# Altium schematic symbol library user.SchLib: 19 symbols
Pins are listed as number, name and electrical type; pins without a type are passive.

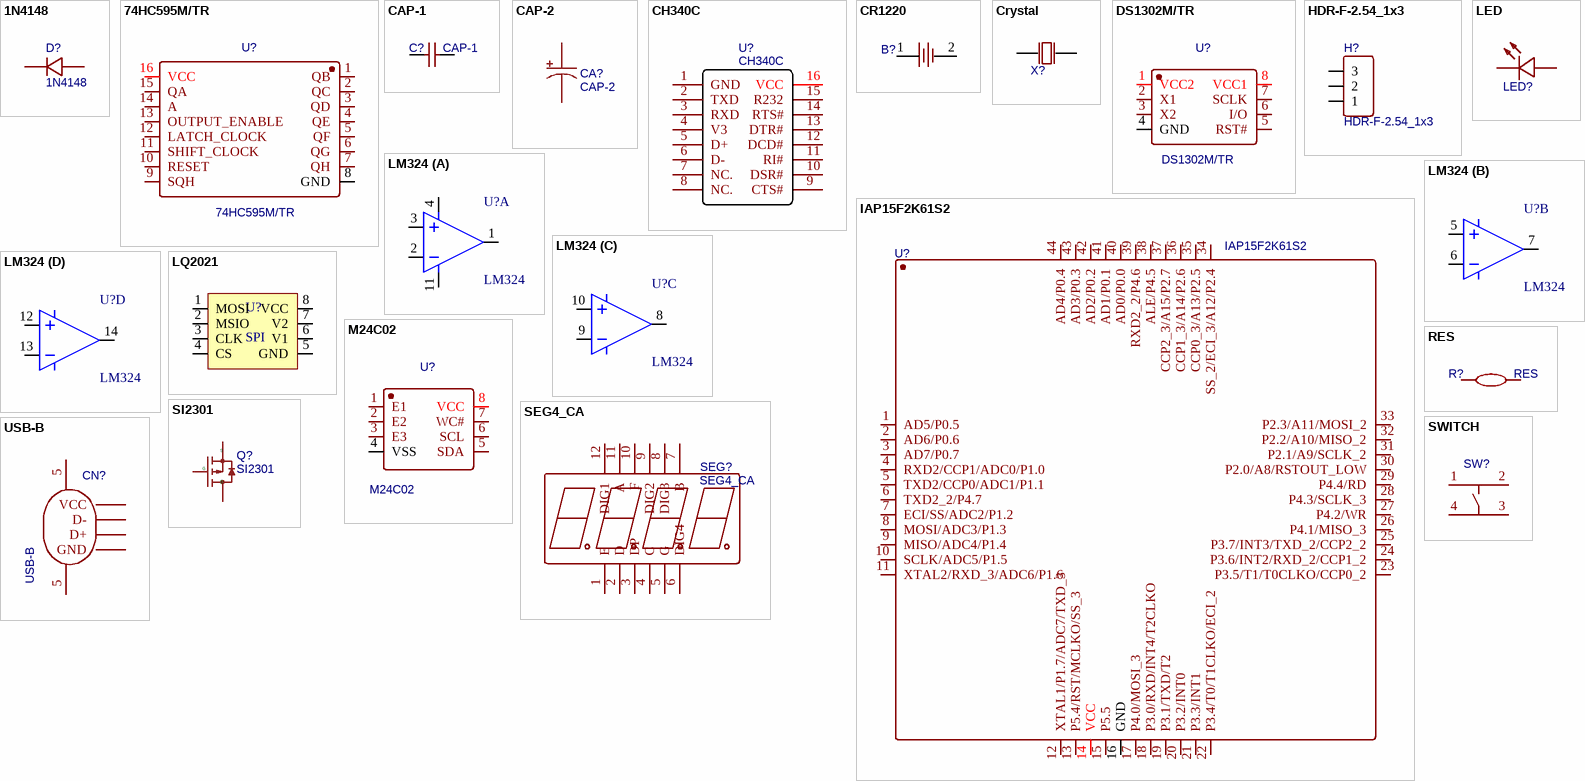
[diagram p0: symbols 1N4148 to USB-B]

## 1N4148
designator D?
BOM_Manufacturer: KEXIN; BOM_Manufacturer Part: KLL4148; Contributor: LCSC; BOM_Supplier: LCSC; BOM_Supplier Part: C369941; spicePre: D; spiceSymbolName: KLL4148
footprint LL-34_L3.5-W1.5-RD
pins: 1 C, 2 A

## 74HC595M/TR
designator U?
BOM_Manufacturer: HGSEMI; Contributor: LCSC; BOM_Supplier: LCSC; BOM_Supplier Part: C507176; BOM_Manufacturer Part: 74HC595M/TR; spicePre: U; spiceSymbolName: 74HC595M/TR
footprint SOP-16_L10.0-W3.9-P1.27-LS6.0-BL
pins: 1 QB, 2 QC, 3 QD, 4 QE, 5 QF, 6 QG, 7 QH, 8 GND, 9 SQH, 10 RESET, 11 SHIFT_CLOCK, 12 LATCH_CLOCK, 13 OUTPUT_ENABLE, 14 A, 15 QA, 16 VCC

## CAP-1
designator C?
BOM_Manufacturer: FH; BOM_Manufacturer Part: 0805F104M500NT; nameAlias: Capacitance; BOM_Supplier: LCSC; BOM_Supplier Part: C28378; spicePre: C; spiceSymbolName: 0805F104M500NT
footprint C0805
pins: 1, 2

## CAP-2
designator CA?
BOM_Manufacturer: SamYoung Electronics; nameAlias: Capacitance; Contributor: LCSC; BOM_Supplier: LCSC; BOM_Supplier Part: C165624; BOM_Manufacturer Part: -; spicePre: C; spiceSymbolName: MVK 25V47uF
footprint CAP-SMD_BD6.3-L6.6-W6.6-FD
pins: 1, 2

## CH340C
designator U?
BOM_Manufacturer: WCH; SMT Type: Extend; BOM_Supplier: LCSC; BOM_Manufacturer Part: CH340C; BOM_Supplier Part: C84681; BOM_LCSC Assembly: Yes; spicePre: U; spiceSymbolName: CH340C
footprint SOP-16_L10.0-W3.9-P1.27-LS6.0-BL
pins: 1 GND, 2 TXD, 3 RXD, 4 V3, 5 D+, 6 D-, 7 NC., 8 NC., 9 CTS#, 10 DSR#, 11 RI#, 12 DCD#, 13 DTR#, 14 RTS#, 15 R232, 16 VCC

## CR1220
designator B?  (value not drawn)
BOM_Manufacturer: Q&J; BOM_Manufacturer Part: CR1220-2; BOM_Supplier: LCSC; image: //image.lceda.cn/szlcsc/C70381.jpg; BOM_Supplier Part: C70381; spicePre: B; spiceSymbolName: CR1220-2
footprint BAT-SMD_CR1220-2
pins: 1, 2

## Crystal
designator X?  (value not drawn)
BOM_Manufacturer: SHENZHEN CRYSTAL TECH; BOM_Manufacturer Part: 6K832768F12UB; nameAlias: Frequency; Contributor: LCSC; BOM_Supplier: LCSC; BOM_Supplier Part: C252404; spicePre: X; spiceSymbolName: 6K832768F12UB
footprint OSC-TH_BD3.0-P1.10-D0.4
footprint XTAL-DT38 (晶振3x8)
pins: 1 OSC1, 2 OSC2

## DS1302M/TR
designator U?
BOM_Manufacturer: HGSEMI; Contributor: LCSC; BOM_Supplier: LCSC; BOM_Supplier Part: C434511; BOM_Manufacturer Part: DS1302M/TR; spicePre: U; spiceSymbolName: DS1302M/TR
footprint SOP-8_L4.9-W3.9-P1.27-LS6.0-BL
pins: 1 VCC2, 2 X1, 3 X2, 4 GND, 5 RST#, 6 I/O, 7 SCLK, 8 VCC1

## HDR-F-2.54_1x3
designator H?
Contributor: LCEDA_Lib; BOM_Supplier Part: C146690; BOM_Supplier: LCSC; spicePre: H; spiceSymbolName: HDR-F-2.54_1x3
footprint HDR-F-2.54_1X3
pins: 1, 2, 3

## IAP15F2K61S2
designator U?
BOM_Manufacturer: STC; BOM_Manufacturer Part: IAP15F2K61S2 LQFP44; SMT Type: Extend; BOM_Supplier: LCSC; BOM_Supplier Part: C47451; BOM_LCSC Assembly: Yes; spicePre: U; spiceSymbolName: IAP15F2K61S2 LQFP44
footprint LQFP-44_L10.0-W10.0-P0.80-LS12.0-BL
pins: 1 AD5/P0.5, 2 AD6/P0.6, 3 AD7/P0.7, 4 RXD2/CCP1/ADC0/P1.0, 5 TXD2/CCP0/ADC1/P1.1, 6 TXD2_2/P4.7, 7 ECI/SS/ADC2/P1.2, 8 MOSI/ADC3/P1.3, 9 MISO/ADC4/P1.4, 10 SCLK/ADC5/P1.5, 11 XTAL2/RXD_3/ADC6/P1.6, 12 XTAL1/P1.7/ADC7/TXD_3, 13 P5.4/RST/MCLKO/SS_3, 14 VCC, 15 P5.5, 16 GND, 17 P4.0/MOSI_3, 18 P3.0/RXD/INT4/T2CLKO, 19 P3.1/TXD/T2, 20 P3.2/INT0, 21 P3.3/INT1, 22 P3.4/T0/T1CLKO/ECI_2, 23 P3.5/T1/T0CLKO/CCP0_2, 24 P3.6/INT2/RXD_2/CCP1_2, 25 P3.7/INT3/TXD_2/CCP2_2, 26 P4.1/MISO_3, 27 P4.2/WR, 28 P4.3/SCLK_3, 29 P4.4/RD, 30 P2.0/A8/RSTOUT_LOW, 31 P2.1/A9/SCLK_2, 32 P2.2/A10/MISO_2, 33 P2.3/A11/MOSI_2, 34 SS_2/ECI_3/A12/P2.4, 35 CCP0_3/A13/P2.5, 36 CCP1_3/A14/P2.6, 37 CCP2_3/A15/P2.7, 38 ALE/P4.5, 39 RXD2_2/P4.6, 40 AD0/P0.0, 41 AD1/P0.1, 42 AD2/P0.2, 43 AD3/P0.3, 44 AD4/P0.4

## LED
designator LED?  (value not drawn)
BOM_Manufacturer: Everlight Elec; BOM_Manufacturer Part: 17-21URC/TR8; Contributor: LCSC; BOM_Supplier: LCSC; BOM_Supplier Part: C264414; spicePre: L; spiceSymbolName: 17-21URC/TR8
footprint LED0805-R-RD
pins: 1 A, 2 K

## LM324
designator U?
footprint DIP-14
footprint SO-14
part A pins: 1, 2, 3, 4, 11
part B pins: 5, 6, 7
part C pins: 8, 9, 10
part D pins: 12, 13, 14

## LQ2021
designator U?, comment SPI
pins: 1 MOSI, 2 MSIO, 3 CLK, 4 CS, 5 GND, 6 V1, 7 V2, 8 VCC

## M24C02
designator U?
BOM_Manufacturer: STMicroelectronics; BOM_Manufacturer Part: M24C02-WMN6TP; SMT Type: Basic; spicePre: X; BOM_Supplier: LCSC; BOM_LCSC Assembly: Yes; image: //image.lceda.cn/szlcsc/C7562.jpg; BOM_Supplier Part: C7562; spiceSymbolName: M24C02-WMN6TP
footprint SOIC-8_L4.9-W3.9-P1.27-LS6.0-BL
pins: 1 E1, 2 E2, 3 E3, 4 VSS, 5 SDA, 6 SCL, 7 WC#, 8 VCC

## RES
designator R?
BOM_Manufacturer: UniOhm; BOM_Manufacturer Part: 080500J0104T5E; nameAlias: Resistance (Ohms); Contributor: LCSC; BOM_Supplier: LCSC; BOM_Supplier Part: C149503; spicePre: R; spiceSymbolName: 080500J0104T5E
footprint R0805
pins: 1, 2

## SEG4_CA
designator SEG?
BOM_Manufacturer: Wuxi ARK Tech Elec; BOM_Manufacturer Part: SR420361N; Contributor: LCSC; BOM_Supplier: LCSC; BOM_Supplier Part: C98926; spicePre: L; spiceSymbolName: SR420361N
footprint LED-SEG-TH_12P-L30.0-W14.0-P2.54-S10.26-BL
pins: 1 E, 2 D, 3 DP, 4 C, 5 G, 6 DIG4, 7 B, 8 DIG3, 9 DIG2, 10 F, 11 A, 12 DIG1

## SI2301
designator Q?
BOM_Manufacturer: Hottech; Contributor: LCSC; SMT Type: Extend; BOM_Supplier: LCSC; BOM_Manufacturer Part: SI2301; BOM_Supplier Part: C181086; BOM_LCSC Assembly: Yes; spicePre: Q; spiceSymbolName: SI2301
footprint SOT-23-3_L2.9-W1.3-P1.90-LS2.4-BR
pins: 1 G, 2 S, 3 D

## SWITCH
designator SW?  (value not drawn)
BOM_Manufacturer: Korean Hroparts Elec; BOM_Manufacturer Part: K2-6639SP-A4SC-04; Contributor: LCSC; BOM_Supplier: LCSC; BOM_Supplier Part: C879454; spicePre: S; spiceSymbolName: K2-6639SP-A4SC-04_C879454
footprint SW-SMD_4P-L6.0-W6.0-P3.90-LS9.5
pins: 1, 2, 3, 4

## USB-B
designator CN?
BOM_Manufacturer: ValuePro; BOM_Manufacturer Part: USB-BF90; BOM_Supplier: LCSC; image: //image.lceda.cn/szlcsc/C46392.jpg; BOM_Supplier Part: C46392; spicePre: C; spiceSymbolName: USB-B-Female-90
footprint USB-B_TH_BF90
pins: 1 VCC, 2 D-, 3 D+, 4 GND, 5 SH1, 5 SH2